# Altium schematic symbol library Acoustic.SchLib: 3 symbols
Pins are listed as number, name and electrical type; pins without a type are passive.

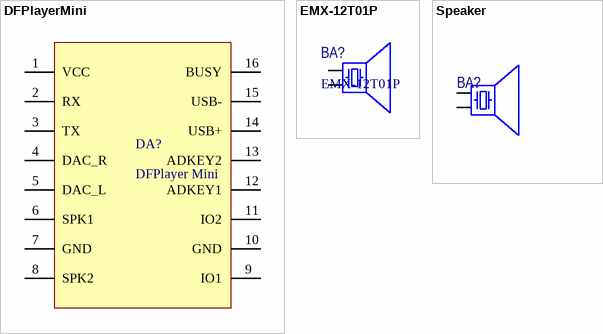
[diagram p0: symbols DFPlayerMini to Speaker]

## DFPlayerMini
designator DA?, comment DFPlayer Mini
Модуль mp3 плеера; Manufacturer: DFRobot; ManufacturerPartNumber: DFPlayer Mini; ComponentLink1Description: Сайт; ComponentLink1URL: https://www.dfrobot.com/wiki/index.php/DFPlayer_Mini_SKU:DFR0299; Price: 0; Supplier: ALiExpress
footprint DFPlayerMini (несколько штырьковых розеток)
pins: 1 VCC, 2 RX, 3 TX, 4 DAC_R, 5 DAC_L, 6 SPK1, 7 GND, 8 SPK2, 9 IO1, 10 GND, 11 IO2, 12 ADKEY1, 13 ADKEY2, 14 USB+, 15 USB-, 16 BUSY

## EMX-12T01P
designator BA?
70дБ/2730Гц/1,5B/6.5мм; Manufacturer: East; Note: Катушечный. Использовать с диодом; Supplier: Промэлектроника; ManufacturerPartNumber: EMX-12T01P; ComponentLink1URL: http://www.multitrack-buzzer.de/wp-content/gallery/magnetic-transducer/pdf/EMX-12T01P.pdf; ComponentLink1Description: Datasheet; Price: 107.01
footprint EMX-12T01P
pins: 1, 2

## Speaker
designator BA?, comment SFM-1740
Piezo speaker; Manufacturer: EAST; Note: 5V/80db; ComponentLink1Description: Datasheet; ComponentLink1URL: http://www.promelec.ru/pdf/sfm-1740.pdf; Price: 63.05; ManufacturerPartNumber: SFM-1740; Package: SMD; Supplier: Промэлектроника
footprint SFM-1740 (SMD Buzzer/Transducer)
pins: 1, 2
1 alternate drawing of the same symbol